# Altium footprint library Ch340G.PcbLib: 2 footprints
Each footprint in its own frame and in the unit in brackets; x right, y up, seen from the top. Pads: shape width x height; smd on the part's side, far side on the other; paste and mask are expansions set on the pad; w line width, h text height; cw(c..) or ccw(c..) is an arc to the next point about the centre after c.
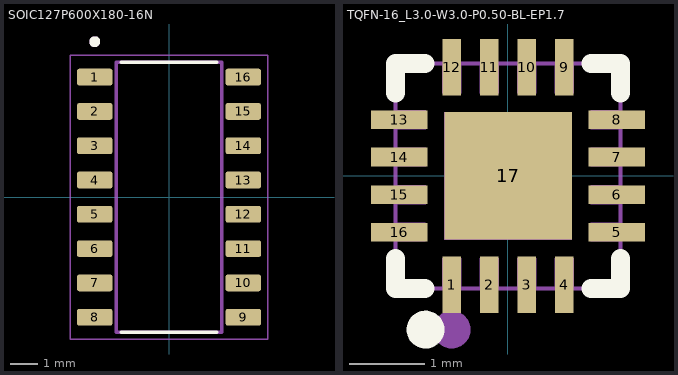
[diagram p0: the footprints below, top view; thin cyan lines are the x and y axes]

## SOIC127P600X180-16N [mm]
pads (16):
  rrect25% 1.31x0.62 smd: 1(-2.75,4.445) 2(-2.75,3.175) 3(-2.75,1.905) 4(-2.75,0.635) 5(-2.75,-0.635) 6(-2.75,-1.905) 7(-2.75,-3.175) 8(-2.75,-4.445) 9(2.75,-4.445) 10(2.75,-3.175) 11(2.75,-1.905) 12(2.75,-0.635) 13(2.75,0.635) 14(2.75,1.905) 15(2.75,3.175) 16(2.75,4.445)
Top Overlay:
  circle w0.2: c-2.75,5.755 r0.1
  lines w0.127: -1.775,-5 1.775,-5 ; -1.775,5 1.775,5
Mechanical 13:
  circle w0.2: c-2.75,5.755 r0.1
  lines w0.127: -1.95,-5 -1.95,5 1.95,5 1.95,-5 -1.95,-5
Mechanical 15:
  lines w0.05: -3.655,-5.25 -3.655,5.25 3.655,5.25 3.655,-5.25 -3.655,-5.25
3D body "step_temp.STEP": height 1.8, standoff 0, extent -3,-5 3,5

## TQFN-16_L3.0-W3.0-P0.50-BL-EP1.7 [mm]
pads (17):
  rect 0.25x0.75 smd paste-100 mask+0.051: 1(-0.748,-1.45) 2(-0.249,-1.45) 3(0.252,-1.45) 4(0.751,-1.45) 9(0.75,1.45) 10(0.25,1.45) 11(-0.25,1.45) 12(-0.749,1.45)
  rect 0.75x0.25 smd paste-100 mask+0.051: 5(1.45,-0.75) 6(1.45,-0.25) 7(1.45,0.25) 8(1.45,0.75) 13(-1.45,0.75) 14(-1.45,0.25) 15(-1.45,-0.25) 16(-1.45,-0.75)
  rect 1.7x1.7 smd paste-100 mask+0.051: 17(0,0)
Top Overlay:
  circle w0.254: c-1.1,-2.05 r0.125
  lines w0.254: -1.5,-1.104 -1.5,-1.5 -1.105,-1.5 ; -1.5,1.108 -1.5,1.5 -1.105,1.5 ; 1.106,1.5 1.5,1.5 1.5,1.108 ; 1.108,-1.5 1.5,-1.5 1.5,-1.104
Top Paste:
  region: -0.68,0.68 0.68,0.68 0.68,-0.68 -0.68,-0.68
  region: -1.075,0.625 -1.075,0.875 -1.825,0.875 -1.825,0.625
  region: -1.075,0.125 -1.075,0.375 -1.825,0.375 -1.825,0.125
  region: -1.075,-0.375 -1.075,-0.125 -1.825,-0.125 -1.825,-0.375
  region: -1.075,-0.875 -1.075,-0.625 -1.825,-0.625 -1.825,-0.875
  region: 1.825,0.625 1.825,0.875 1.075,0.875 1.075,0.625
  region: 1.825,0.125 1.825,0.375 1.075,0.375 1.075,0.125
  region: 1.825,-0.375 1.825,-0.125 1.075,-0.125 1.075,-0.375
  region: 1.825,-0.875 1.825,-0.625 1.075,-0.625 1.075,-0.875
  region: -0.624,1.825 -0.874,1.825 -0.874,1.075 -0.624,1.075
  region: -0.124,1.825 -0.374,1.825 -0.374,1.075 -0.124,1.075
  region: 0.376,1.825 0.126,1.825 0.126,1.075 0.376,1.075
  region: 0.876,1.825 0.626,1.825 0.626,1.075 0.876,1.075
  region: -0.623,-1.075 -0.873,-1.075 -0.873,-1.825 -0.623,-1.825
  region: -0.124,-1.075 -0.374,-1.075 -0.374,-1.825 -0.124,-1.825
  region: 0.377,-1.075 0.127,-1.075 0.127,-1.825 0.377,-1.825
  region: 0.876,-1.075 0.626,-1.075 0.626,-1.825 0.876,-1.825
Mechanical 6:
  circle w0.25: c-0.75,-2.05 r0.125
Mechanical 15:
  region: -1.44,-1.5 -1.44,-1.475 -1.475,-1.44 -1.525,-1.44 -1.56,-1.475 -1.56,-1.5 -1.56,-1.525 -1.525,-1.56 -1.475,-1.56 -1.44,-1.525 -1.44,-1.5
  region: -1.1,-0.625 -1.1,-0.875 -1.5,-0.875 -1.5,-0.625
  region: -1.1,-0.125 -1.1,-0.375 -1.5,-0.375 -1.5,-0.125
  region: -1.1,0.375 -1.1,0.125 -1.5,0.125 -1.5,0.375
  region: -1.1,0.875 -1.1,0.625 -1.5,0.625 -1.5,0.875
  region: -0.874,1.5 -0.624,1.5 -0.624,1.1 -0.874,1.1
  region: -0.374,1.5 -0.124,1.5 -0.124,1.1 -0.374,1.1
  region: 0.125,1.5 0.375,1.5 0.375,1.1 0.125,1.1
  region: 0.625,1.5 0.875,1.5 0.875,1.1 0.625,1.1
  region: 1.1,0.625 1.1,0.875 1.5,0.875 1.5,0.625
  region: 1.1,0.125 1.1,0.375 1.5,0.375 1.5,0.125
  region: 1.1,-0.375 1.1,-0.125 1.5,-0.125 1.5,-0.375
  region: 1.1,-0.875 1.1,-0.625 1.5,-0.625 1.5,-0.875
  region: 0.876,-1.5 0.626,-1.5 0.626,-1.1 0.876,-1.1
  region: 0.377,-1.5 0.127,-1.5 0.127,-1.1 0.377,-1.1
  region: -0.124,-1.5 -0.374,-1.5 -0.374,-1.1 -0.124,-1.1
  region: -0.623,-1.5 -0.873,-1.5 -0.873,-1.1 -0.623,-1.1
  region: -0.85,0.85 0.85,0.85 0.85,-0.85 -0.85,-0.85
  lines w0.051: -1.5,-1.5 1.5,-1.5 1.5,1.5 -1.5,1.5 -1.5,-1.5
3D body "ALSRobot-QFN16 3x3.STEP": height 0.9, standoff 0, extent -1.524,-1.518 1.518,1.524